# EAGLE library part PT2399 (library integrated circuits)
Echo Processor IC
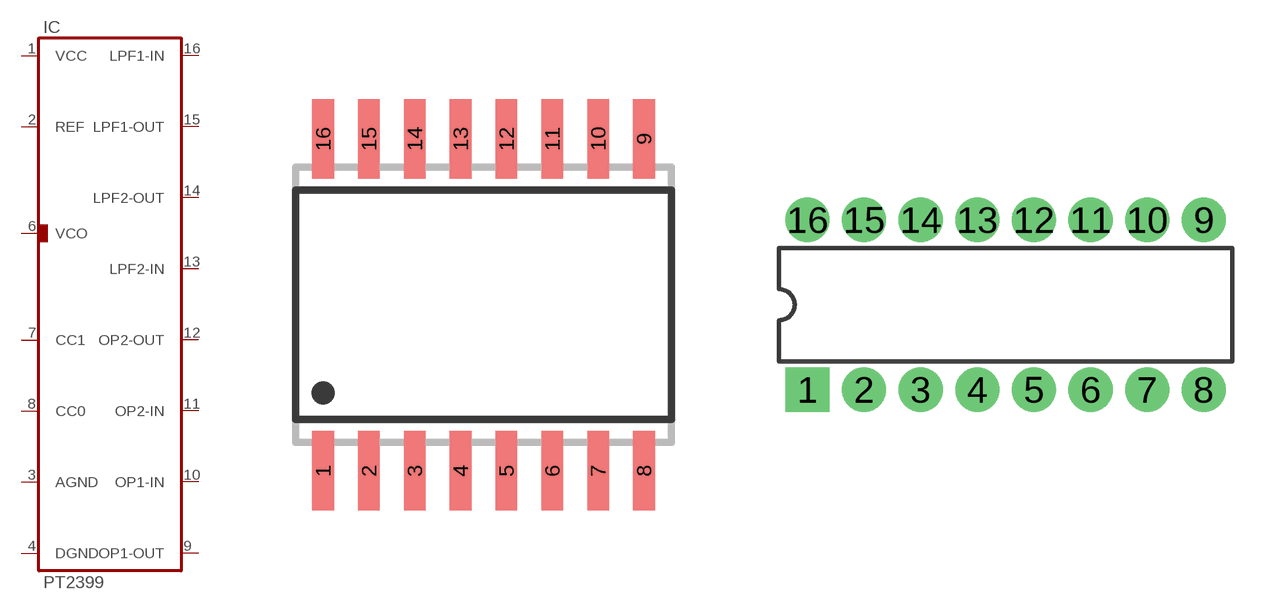
[diagram p23: symbol with the pads of SO16W; footprints SO16W, DIL16]

Designator prefix IC

## PT2399SMD  [SO16W]
1  VCC  pwr
2  REF  in
3  AGND  pwr
4  DGND  pwr
6  VCO  in
7  CC1  in
8  CC0  in
9  OP1-OUT  out
10  OP1-IN  in
11  OP2-IN  in
12  OP2-OUT  out
13  LPF2-IN  in
14  LPF2-OUT  out
15  LPF1-OUT  out
16  LPF1-IN  in

## PT2399TH  [DIL16]
Pads as for SO16W

## Footprint SO16W (pad centres in mm)
SMALL OUTLINE INTEGRATED CIRCUIT wide body 7.5 mm/JEDEC MS-013AA
smd 0.6 x 2.2: 1 -4.445,-4.6; 2 -3.175,-4.6; 3 -1.905,-4.6; 4 -0.635,-4.6; 5 0.635,-4.6; 6 1.905,-4.6; 7 3.175,-4.6; 8 4.445,-4.6; 9 4.445,4.6; 10 3.175,4.6; 11 1.905,4.6; 12 0.635,4.6; 13 -0.635,4.6; 14 -1.905,4.6; 15 -3.175,4.6; 16 -4.445,4.6

## Footprint DIL16 (pad centres in mm)
Dual In Line Package
drill 1 pad 1.981 square: 1 -8.89,-3.81
drill 1 pad 1.981: 2 -6.35,-3.81; 3 -3.81,-3.81; 4 -1.27,-3.81; 5 1.27,-3.81; 6 3.81,-3.81; 7 6.35,-3.81; 8 8.89,-3.81; 9 8.89,3.81; 10 6.35,3.81; 11 3.81,3.81; 12 1.27,3.81; 13 -1.27,3.81; 14 -3.81,3.81; 15 -6.35,3.81; 16 -8.89,3.81